# Altium schematic symbol library TPS54339EDDAR.SCHLIB: 3 symbols
Pins are listed as number, name and electrical type; pins without a type are passive.

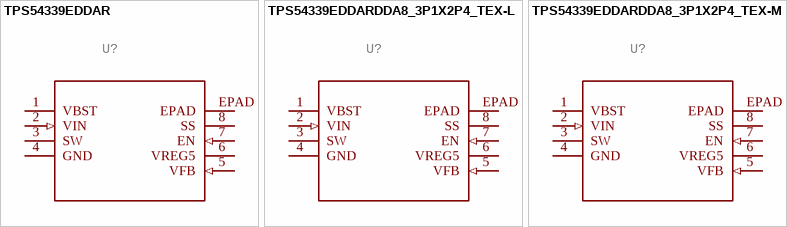
[diagram p0: symbols TPS54339EDDAR to TPS54339EDDARDDA8_3P1X2P4_TEX-M]

## TPS54339EDDAR
designator U?
GateName_1: A; SymbolName_1: TPS54339EDDAR; BUILT_BY: EMA_UL_Team; SOURCELIBRARY: TI_2017-02-16; VENDOR: Texas Instruments; LibraryName: TPS54339EDDAR; DeviceSetName: TPS54339EDDAR; Package: DDA8_3P1X2P4_TEX; MANUFACTURER_PART_NUMBER: TPS54339EDDAR
footprint DDA8_3P1X2P4_TEX
pins: 1 VBST, 2 VIN (in), 3 SW, 4 GND (power), 5 VFB (in), 6 VREG5 (power), 7 EN (in), 8 SS, EPAD

## TPS54339EDDARDDA8_3P1X2P4_TEX-L
designator U?
GateName_1: A; SymbolName_1: TPS54339EDDAR; DeviceName: DDA8_3P1X2P4_TEX-L; BUILT_BY: EMA_UL_Team; SOURCELIBRARY: TI_2017-02-16; VENDOR: Texas Instruments; LibraryName: TPS54339EDDAR; DeviceSetName: TPS54339EDDAR; Package: DDA8_3P1X2P4_TEX-L; MANUFACTURER_PART_NUMBER: TPS54339EDDAR
footprint DDA8_3P1X2P4_TEX-L
pins: 1 VBST, 2 VIN (in), 3 SW, 4 GND (power), 5 VFB (in), 6 VREG5 (power), 7 EN (in), 8 SS, EPAD

## TPS54339EDDARDDA8_3P1X2P4_TEX-M
designator U?
GateName_1: A; SymbolName_1: TPS54339EDDAR; DeviceName: DDA8_3P1X2P4_TEX-M; BUILT_BY: EMA_UL_Team; SOURCELIBRARY: TI_2017-02-16; VENDOR: Texas Instruments; LibraryName: TPS54339EDDAR; DeviceSetName: TPS54339EDDAR; Package: DDA8_3P1X2P4_TEX-M; MANUFACTURER_PART_NUMBER: TPS54339EDDAR
footprint DDA8_3P1X2P4_TEX-M
pins: 1 VBST, 2 VIN (in), 3 SW, 4 GND (power), 5 VFB (in), 6 VREG5 (power), 7 EN (in), 8 SS, EPAD